# EAGLE library part LDFM33PVR (library LDFM33PVR)
LDO Voltage Regulators 500 mA very low drop voltage regulator Source: Datasheet <https://componentsearchengine.com/Datasheets/1/LDFM33PVR.pdf>
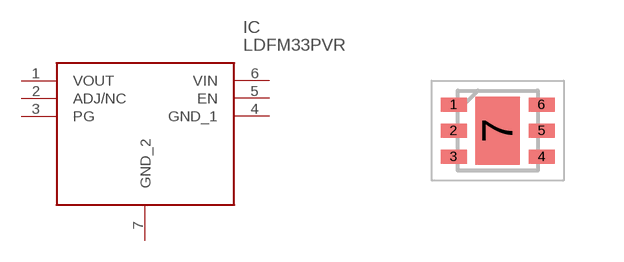
[diagram p0: symbol with the pads of SON65P200X200X100-7N; footprint SON65P200X200X100-7N]

Designator prefix IC

## LDFM33PVR (Description: LDO Voltage Regulators 500 mA very low drop voltage regulator; Height: 1mm; Manufacturer_Name: STMicroelectronics; Manufacturer_Part_Number: LDFM33PVR; Mouser_Part_Number: 511-LDFM33PVR; Mouser_Price-Stock: https://www.mouser.co.uk/ProductDetail/STMicroelectronics/LDFM33PVR?qs=qzCNEk%252BRr%252Bbt5RX7rWJkeQ%3D%3D)  [SON65P200X200X100-7N]
1  VOUT
2  ADJ/NC
3  PG
4  GND_1
5  EN
6  VIN
7  GND_2

## Footprint SON65P200X200X100-7N (pad centres in mm)
DFN6 (2x2) mechanical data
smd 0.65 x 0.35: 1 -1.1,0.65; 2 -1.1,0; 3 -1.1,-0.65; 4 1.1,-0.65; 5 1.1,0; 6 1.1,0.65
smd 1.1 x 1.7: 7 0,0